# Altium footprint library PCBFootprint_SMD.PcbLib: 197 footprints (part 8 of 13)
Each footprint in its own frame and in the unit in brackets; x right, y up, seen from the top. Pads: shape width x height; smd on the part's side, far side on the other; paste and mask are expansions set on the pad; w line width, h text height; cw(c..) or ccw(c..) is an arc to the next point about the centre after c.
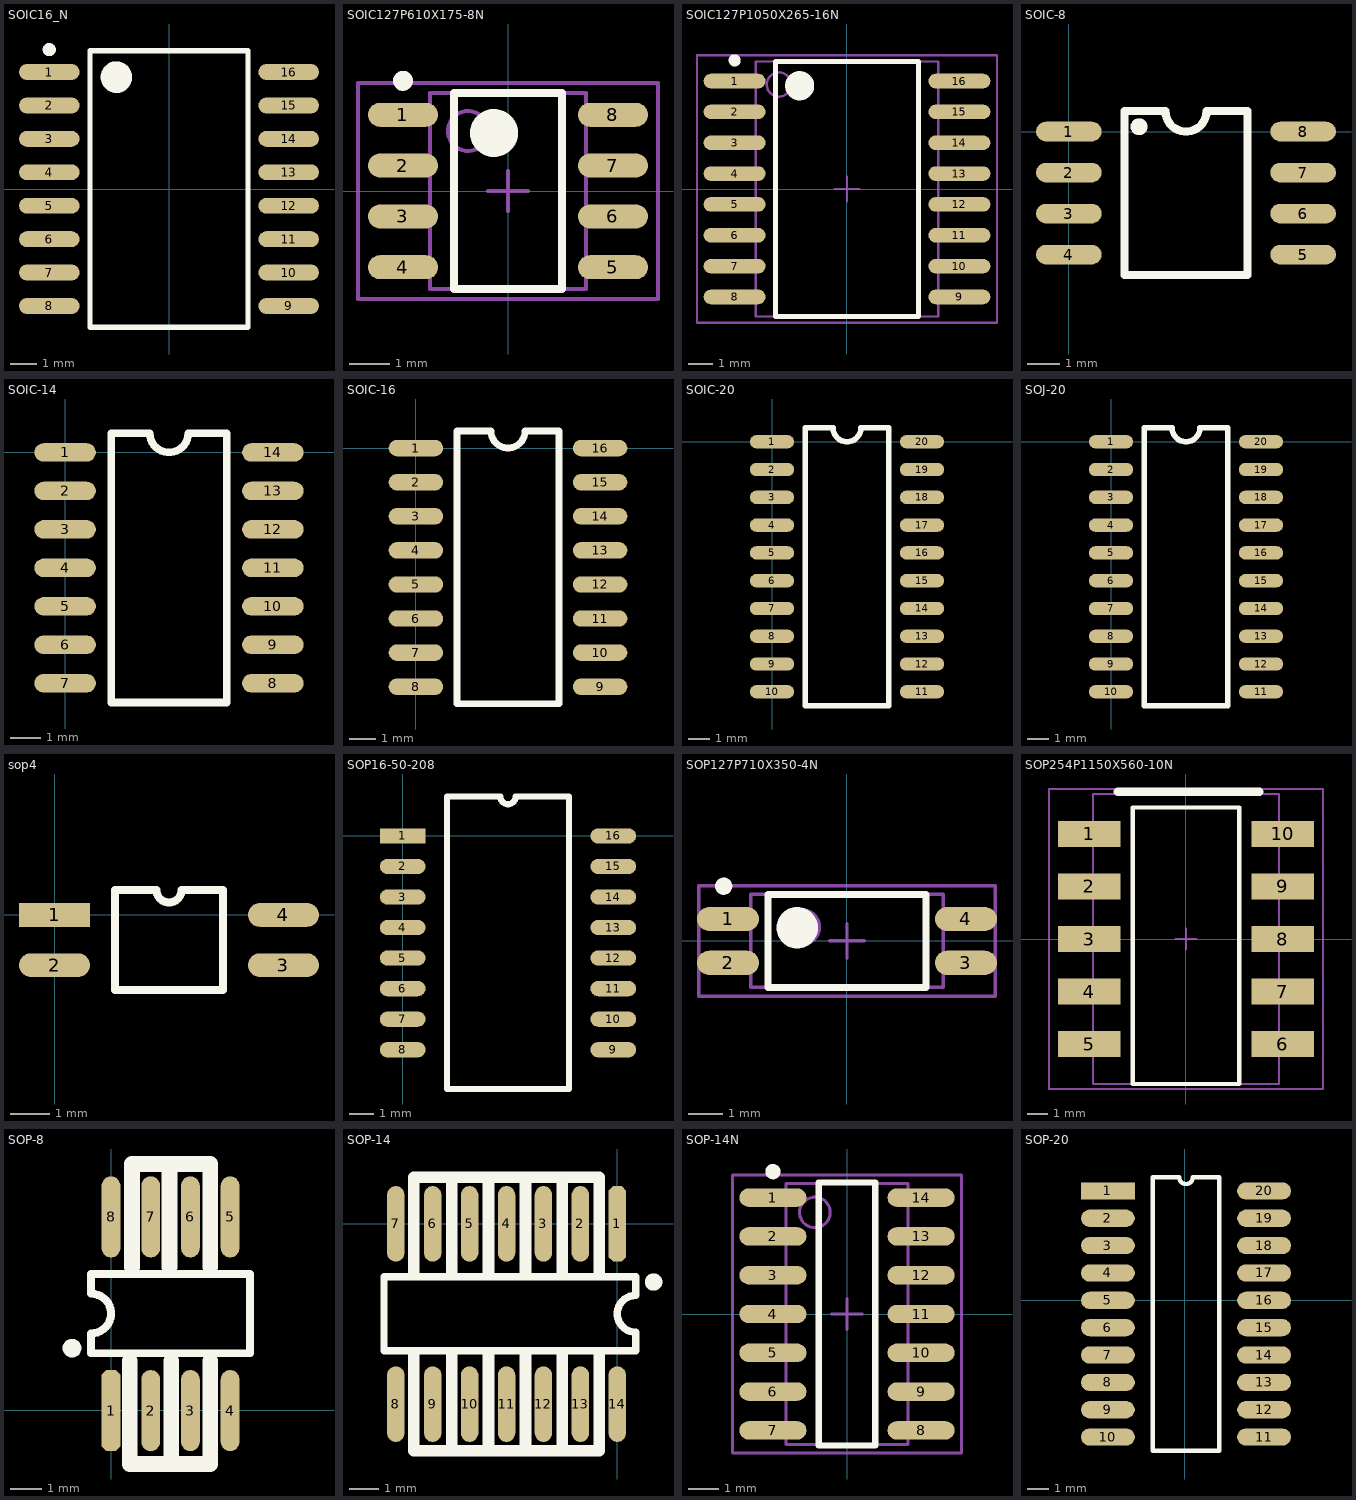
[diagram p7: the footprints below, top view; thin cyan lines are the x and y axes]

## SOIC16_N [mm]
pads (16):
  oval 2.3x0.6 smd: 1(-4.55,4.445) 2(-4.55,3.175) 3(-4.55,1.905) 4(-4.55,0.635) 5(-4.55,-0.635) 6(-4.55,-1.905) 7(-4.55,-3.175) 8(-4.55,-4.445) 9(4.55,-4.445) 10(4.55,-3.175) 11(4.55,-1.905) 12(4.55,-0.635) 13(4.55,0.635) 14(4.55,1.905) 15(4.55,3.175) 16(4.55,4.445)
Top Overlay:
  circle w0.6: c-2,4.25 r0.3
  circle w0.25: c-4.55,5.295 r0.125
  lines w0.2: -3,-5.25 3,-5.25 3,5.25 -3,5.25 -3,-5.25

## SOIC127P610X175-8N [mm] "ACS712"
height 1.75
pads (8):
  oval 1.75x0.6 smd: 1(-2.625,1.905) 2(-2.625,0.635) 3(-2.625,-0.635) 4(-2.625,-1.905) 5(2.625,-1.905) 6(2.625,-0.635) 7(2.625,0.635) 8(2.625,1.905)
Top Overlay:
  circle w0.25: c-2.625,2.755 r0.125
  circle w0.6: c-0.35,1.45 r0.3
  lines w0.2: -1.35,-2.45 -1.35,2.45 1.35,2.45 1.35,-2.45 -1.35,-2.45
Mechanical 13:
  circle w0.1: c-1,1.5 r0.5
  lines w0.1: -1.95,-2.45 -1.95,2.45 1.95,2.45 1.95,-2.45 -1.95,-2.45
Mechanical 15:
  lines w0.1: -0.5,0 0.5,0 ; 0,-0.5 0,0.5 ; -3.75,-2.7 -3.75,2.7 3.75,2.7 3.75,-2.7 -3.75,-2.7
3D body: height 1, standoff 0.1, extent -1.95,-2.45 1.95,2.45

## SOIC127P1050X265-16N [mm] "SOIC SMB460"
height 2.65
pads (16):
  oval 2.55x0.6 smd: 1(-4.625,4.445) 2(-4.625,3.175) 3(-4.625,1.905) 4(-4.625,0.635) 5(-4.625,-0.635) 6(-4.625,-1.905) 7(-4.625,-3.175) 8(-4.625,-4.445) 9(4.625,-4.445) 10(4.625,-3.175) 11(4.625,-1.905) 12(4.625,-0.635) 13(4.625,0.635) 14(4.625,1.905) 15(4.625,3.175) 16(4.625,4.445)
Top Overlay:
  circle w0.25: c-4.625,5.295 r0.125
  circle w0.6: c-1.95,4.25 r0.3
  lines w0.2: -2.95,-5.25 -2.95,5.25 2.95,5.25 2.95,-5.25 -2.95,-5.25
Mechanical 13:
  circle w0.1: c-2.8,4.3 r0.5
  lines w0.1: -3.75,-5.25 -3.75,5.25 3.75,5.25 3.75,-5.25 -3.75,-5.25
Mechanical 15:
  lines w0.1: -0.5,0 0.5,0 ; 0,-0.5 0,0.5 ; -6.175,-5.5 -6.175,5.5 6.175,5.5 6.175,-5.5 -6.175,-5.5
3D body: height 2.65, standoff 0.1, extent -3.75,-5.25 3.75,5.25

## SOIC-8 [mil]
pads (8):
  oval 80x24 smd: 1(0,0) 2(0,-50) 3(0,-100) 4(0,-150) 5(285.75,-150) 6(285.75,-100) 7(285.75,-50) 8(285.75,0)
Top Overlay:
  circle w10: c85.63,5.91 r5.3
  lines w10: 67.87,-175 67.87,25 117.87,25 ccw(c142.87,25) 167.87,25 217.87,25 217.87,-175 67.87,-175

## SOIC-14 [mil]
pads (14):
  oval 80x24 smd: 1(0,0) 2(0,-50) 3(0,-100) 4(0,-150) 5(0,-200) 6(0,-250) 7(0,-300) 8(270,-300) 9(270,-250) 10(270,-200) 11(270,-150) 12(270,-100) 13(270,-50) 14(270,0)
Top Overlay:
  lines w10: 60,-325 60,25 110,25 ccw(c135,25) 160,25 210,25 210,-325 60,-325

## SOIC-16 [mil]
pads (16):
  oval 80x24 smd: 1(0,0) 2(0,-50) 3(0,-100) 4(0,-150) 5(0,-200) 6(0,-250) 7(0,-300) 8(0,-350) 9(270,-350) 10(270,-300) 11(270,-250) 12(270,-200) 13(270,-150) 14(270,-100) 15(270,-50) 16(270,0)
Top Overlay:
  lines w10: 60,-375 60,25 110,25 ccw(c135,25) 160,25 210,25 210,-375 60,-375

## SOIC-20 [mil]
pads (20):
  oval 80x24 smd: 1(0,0) 2(0,-50) 3(0,-100) 4(0,-150) 5(0,-200) 6(0,-250) 7(0,-300) 8(0,-350) 9(0,-400) 10(0,-450) 11(270,-450) 12(270,-400) 13(270,-350) 14(270,-300) 15(270,-250) 16(270,-200) 17(270,-150) 18(270,-100) 19(270,-50) 20(270,0)
Top Overlay:
  lines w10: 60,-475 210,-475 210,25 160,25 cw(c135,25) 110,25 60,25 60,-475

## SOJ-20 [mil]
pads (20):
  oval 80x24 smd: 1(0,0) 2(0,-50) 3(0,-100) 4(0,-150) 5(0,-200) 6(0,-250) 7(0,-300) 8(0,-350) 9(0,-400) 10(0,-450) 11(270,-450) 12(270,-400) 13(270,-350) 14(270,-300) 15(270,-250) 16(270,-200) 17(270,-150) 18(270,-100) 19(270,-50) 20(270,0)
Top Overlay:
  lines w10: 60,-475 210,-475 210,25 160,25 cw(c135,25) 110,25 60,25 60,-475

## sop4 [mm]
pads (4):
  rect 1.8x0.6 smd: 1(0,0)
  oval 1.8x0.6 smd: 2(0,-1.27) 3(5.8,-1.27) 4(5.8,0)
Top Overlay:
  lines w0.2: 1.535,-1.905 4.265,-1.905 4.265,0.635 3.217,0.635 cw(c2.9,0.635) 2.582,0.635 1.535,0.635 1.535,-1.905

## SOP16-50-208 [mil]
height 196.85
pads (16):
  rect 75x25 smd: 1(0,0)
  oval 75x25 smd: 2(0,-50) 3(0,-100) 4(0,-150) 5(0,-200) 6(0,-250) 7(0,-300) 8(0,-350) 9(345,-350) 10(345,-300) 11(345,-250) 12(345,-200) 13(345,-150) 14(345,-100) 15(345,-50) 16(345,0)
Top Overlay:
  lines w10: 72.5,-414.37 72.5,64.37 160,64.37 ccw(c172.5,64.37) 185,64.37 272.5,64.37 272.5,-414.37 72.5,-414.37

## SOP127P710X350-4N [mm] "SOP, 4-Leads, Body 2.7x4.5mm (max), Pitch 1.27mm, IPC Medium Density"
height 3.5
pads (4):
  oval 1.8x0.7 smd: 1(-3.448,0.635) 2(-3.448,-0.635) 3(3.448,-0.635) 4(3.448,0.635)
Top Overlay:
  circle w0.25: c-3.575,1.585 r0.125
  circle w0.6: c-1.443,0.381 r0.3
  lines w0.2: -2.286,-1.35 -2.286,1.35 2.286,1.35 2.286,-1.35 -2.286,-1.35
Mechanical 13:
  circle w0.1: c-1.3,0.4 r0.5
  lines w0.1: -2.794,-1.35 -2.794,1.35 2.794,1.35 2.794,-1.35 -2.794,-1.35
Mechanical 15:
  lines w0.1: -0.5,0 0.5,0 ; 0,-0.5 0,0.5 ; -4.3,-1.6 -4.3,1.6 4.3,1.6 4.3,-1.6 -4.3,-1.6
3D body: height 3.5, standoff 0.25, extent -2.758,-1.35 2.794,1.35

## SOP254P1150X560-10N [mm] "双继电器"
height 5.6
pads (10):
  rect 3x1.25 smd: 1(-4.675,5.08) 2(-4.675,2.54) 3(-4.675,0) 4(-4.675,-2.54) 5(-4.675,-5.08) 6(4.675,-5.08) 7(4.675,-2.54) 8(4.675,0) 9(4.675,2.54) 10(4.675,5.08)
Top Overlay:
  lines w0.2: -2.575,-7 2.575,-7 2.575,6.35 -2.575,6.35 -2.575,-7
  lines w0.4: -3.302,7.112 3.556,7.112
Mechanical 13:
  lines w0.1: -4.5,-7 4.5,-7 4.5,7 -4.5,7 -4.5,-7
Mechanical 15:
  lines w0.1: -0.5,0 0.5,0 ; 0,-0.5 0,0.5 ; -6.625,-7.25 6.625,-7.25 6.625,7.25 -6.625,7.25 -6.625,-7.25
3D body: height 5.6, standoff 0.25, extent -4.5,-7 4.5,7

## SOP-8 [mm]
pads (8):
  oct 0.6x2.6 smd: 1(-0.009,-0.005)
  oval 0.6x2.6 smd: 2(1.261,-0.005) 3(2.531,-0.005) 4(3.801,-0.005) 5(3.801,6.195) 6(2.531,6.195) 7(1.261,6.195) 8(-0.009,6.195)
Top Overlay:
  circle w0.3: c-1.259,1.995 r0.15
  lines w0.254: -0.644,1.831 4.436,1.831 4.436,4.371 -0.644,4.371 -0.644,3.736 cw(c-0.644,3.101) -0.644,2.466 -0.644,1.831
  lines w0.5: 0.591,-1.713 0.591,1.587 ; 0.661,-1.713 3.162,-1.713 3.161,1.587 ; 0.661,4.587 0.661,7.887 1.861,7.887 ; 1.861,4.587 1.861,7.887 ; 1.921,-1.713 1.921,1.587 ; 3.161,4.587 3.161,7.887 1.861,7.887

## SOP-14 [mm]
pads (14):
  oct 0.6x2.6 smd: 1(0.007,-0.007)
  oval 0.6x2.6 smd: 2(-1.263,-0.007) 3(-2.533,-0.007) 4(-3.803,-0.007) 5(-5.073,-0.007) 6(-6.343,-0.007) 7(-7.613,-0.007) 8(-7.613,-6.207) 9(-6.343,-6.207) 10(-5.073,-6.207) 11(-3.803,-6.207) 12(-2.533,-6.207) 13(-1.263,-6.207) 14(0.007,-6.207)
Top Overlay:
  circle w0.3: c1.257,-2.007 r0.15
  lines w0.254: -8.018,-4.371 0.642,-4.371 0.642,-3.736 cw(c0.642,-3.101) 0.642,-2.466 0.642,-1.831 -8.018,-1.831 -8.018,-4.371
  lines w0.4: -6.993,-4.507 -6.993,-7.807 -0.643,-7.807 ; -6.993,-1.707 -6.993,1.593 -0.643,1.593 ; -5.693,-7.807 -5.693,-4.507 ; -5.693,-1.707 -5.693,1.593 ; -4.423,-7.807 -4.423,-4.507 ; -4.423,-1.707 -4.423,1.593 ; -3.153,-7.807 -3.153,-4.507 ; -3.153,-1.707 -3.153,1.593 ; -1.883,-7.807 -1.883,-4.507 ; -1.883,-1.707 -1.883,1.593 ; -0.613,-7.807 -0.613,-4.507 ; -0.613,-1.707 -0.613,1.593

## SOP-14N [mm] "SOP, 14-Leads,"
height 1.75
pads (14):
  oval 2.2x0.6 smd: 1(-2.425,3.81) 2(-2.425,2.54) 3(-2.425,1.27) 4(-2.425,0) 5(-2.425,-1.27) 6(-2.425,-2.54) 7(-2.425,-3.81) 8(2.425,-3.81) 9(2.425,-2.54) 10(2.425,-1.27) 11(2.425,0) 12(2.425,1.27) 13(2.425,2.54) 14(2.425,3.81)
Top Overlay:
  circle w0.25: c-2.425,4.66 r0.125
  lines w0.2: -0.925,-4.3 0.925,-4.3 0.925,4.3 -0.925,4.3 -0.925,-4.3
Mechanical 13:
  circle w0.1: c-1.05,3.325 r0.5
  lines w0.1: -2,-4.275 2,-4.275 2,4.275 -2,4.275 -2,-4.275
Mechanical 15:
  lines w0.1: -0.5,0 0.5,0 ; 0,-0.5 0,0.5 ; -3.75,-4.55 3.75,-4.55 3.75,4.55 -3.75,4.55 -3.75,-4.55
3D body: height 1.75, standoff 0.2, extent -2,-4.275 2,4.275

## SOP-20 [mm] "74ls244"
height 2.032
pads (20):
  rect 2.5x0.8 smd: 1(-3.556,5.08)
  oval 2.5x0.8 smd: 2(-3.556,3.81) 3(-3.556,2.54) 4(-3.556,1.27) 5(-3.556,0) 6(-3.556,-1.27) 7(-3.556,-2.54) 8(-3.556,-3.81) 9(-3.556,-5.08) 10(-3.556,-6.35) 11(3.694,-6.35) 12(3.694,-5.08) 13(3.694,-3.81) 14(3.694,-2.54) 15(3.694,-1.27) 16(3.694,0) 17(3.694,1.27) 18(3.694,2.54) 19(3.694,3.81) 20(3.694,5.08)
Top Overlay:
  lines w0.2: -1.471,-6.985 -1.471,5.715 -0.249,5.715 ccw(c0.069,5.715) 0.386,5.715 1.609,5.715 1.609,-6.985 -1.471,-6.985